# Altium schematic symbol library XC6220B331ER-G.SchLib: 1 symbol
Pins are listed as number, name and electrical type; pins without a type are passive.

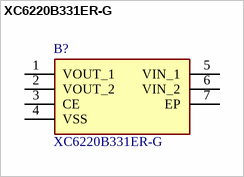
[diagram p0: symbol XC6220B331ER-G]

## XC6220B331ER-G
designator B?
Linear Voltage Regulator IC Positive Fixed 1 Output 1A 6-USPC (1.8x2); Manufacturer_Name: Torex; Geometry.Height: 1mm; Mouser Part Number: 865-XC6220B331ER-G; Mouser Price/Stock: https://www.mouser.co.uk/ProductDetail/Torex-Semiconductor/XC6220B331ER-G?qs=AsjdqWjXhJ%252BJj%252BEWI7nHIg%3D%3D; Manufacturer_Part_Number: XC6220B331ER-G; Datasheet Link: https://www.digikey.ph/en/products/detail/torex-semiconductor-ltd/XC6220B331ER-G/10166030?msockid=39f1ec84d77b6f4428b7f904d6676eed
footprint XC6220B331ERG
pins: 1 VOUT_1, 2 VOUT_2, 3 CE, 4 VSS, 5 VIN_1, 6 VIN_2, 7 EP